# Altium schematic symbol library sfp_cage.SchLib: 1 symbol
Pins are listed as number, name and electrical type; pins without a type are passive.

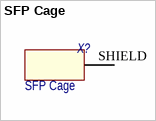
[diagram p0: symbol SFP Cage]

## SFP Cage
designator X?
Потребление, Вт: 0; Назначение: SFP Cage; Наименование: SFP Cage
footprint 74754-0220 (1x2 SFP press-fit cage)
footprint 2007263-1 (1x2 SFP press-fit cage)
footprint 74737-0016 (1x1 sfp cage)
footprint 2007178-1 (4 Port SFP+ Cage Assembly with Light Pipes)
footprint 2007254-1 (1x1 sfp cage with light pipes)
pins: SHIELD